# EAGLE library part CON_HARTING_SUBD5_2COAX (library Radicon_connectors)
HARTING SUBD5 with 2 coaxial
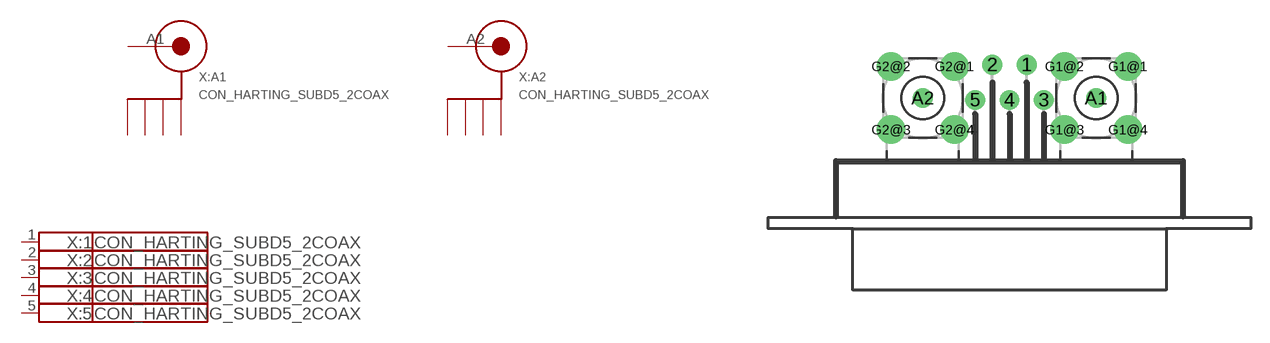
[diagram p4: symbol with the pads of CON_HARTING_SUBD5_2COAX; footprint CON_HARTING_SUBD5_2COAX]

Designator prefix X; gates :A1=COAX :A2=COAX :1=CON_PIN :2=CON_PIN :3=CON_PIN :4=CON_PIN :5=CON_PIN

## CON_HARTING_SUBD5_2COAX  [CON_HARTING_SUBD5_2COAX]
1  :1:1
2  :2:1
3  :3:1
4  :4:1
5  :5:1
A1  :A1:SIGNAL
A2  :A2:SIGNAL
G1@1  :A1:GND
G1@2  :A1:GND
G1@3  :A1:GND
G1@4  :A1:GND
G2@1  :A2:GND
G2@2  :A2:GND
G2@3  :A2:GND
G2@4  :A2:GND

## Footprint CON_HARTING_SUBD5_2COAX (pad centres in mm)
THOMAS&BETTS H3M15RA29A
drill 1 pad 1.6: 1 1.384,12.852; 2 -1.384,12.852; 3 2.769,10.008; 4 0,10.008; 5 -2.769,10.008; A1 6.985,10.16; A2 -6.985,10.16
drill 1.5 pad 2.3: G1@1 9.535,12.71; G1@2 4.435,12.71; G1@3 4.435,7.61; G1@4 9.535,7.61; G2@1 -4.435,12.71; G2@2 -9.535,12.71; G2@3 -9.535,7.61; G2@4 -4.435,7.61